# EAGLE library part LM2578AN (library stabilizatory)
VOLTAGE REGULATOR
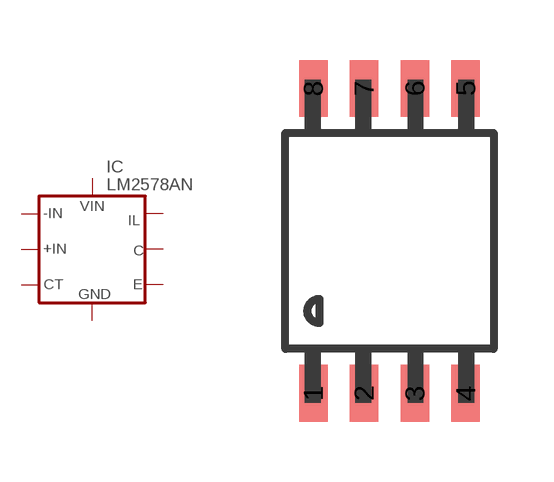
[diagram p25: symbol with the pads of SO8; footprint SO8]

Designator prefix IC

## LM2578AN  [SO8]
1  -IN  in
2  +IN  in
3  CT  in
4  GND  in
5  E  pas
6  C  in
7  IL  in
8  VIN  in

## Footprint SO8 (pad centres in mm)
SO8 Package
smd 0.711 x 1.422: 1 -1.905,-3.81; 2 -0.635,-3.81; 3 0.635,-3.81; 4 1.905,-3.81; 5 1.905,3.81; 6 0.635,3.81; 7 -0.635,3.81; 8 -1.905,3.81